# EAGLE library part MCP4921T-E/MS (library debauer_ics)
8/10/12-Bit Voltage Output Digital-to-Analog Converter,MSOP-8
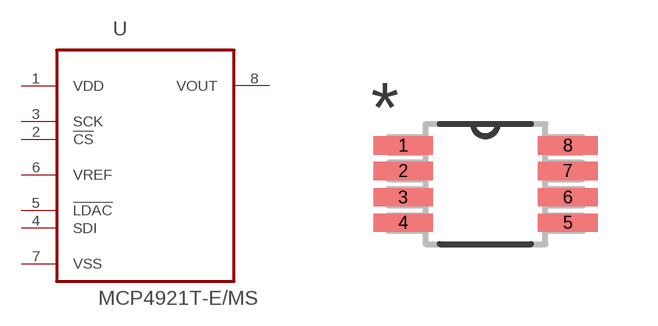
[diagram p18: symbol with the pads of SOP65P490X110-8N; footprint SOP65P490X110-8N]

Designator prefix U

## MCP4921T-E/MS (MPN: MCP4921T-E/MS; OC_FARNELL: 1898544; OC_NEWARK: 08J8745; PACKAGE: MSOP-8; SUPPLIER: Microchip)  [SOP65P490X110-8N]
1  VDD  pwr
2  !CS  in
3  SCK  in
4  SDI  pwr
5  !LDAC
6  VREF  in
7  VSS  pwr
8  VOUT  out

## Footprint SOP65P490X110-8N (pad centres in mm)
smd 1.499 x 0.457: 1 -2.057,0.965; 2 -2.057,0.33; 3 -2.057,-0.33; 4 -2.057,-0.965; 5 2.057,-0.965; 6 2.057,-0.33; 7 2.057,0.33; 8 2.057,0.965